# EAGLE library part TLV320AIC3101 (library X893)
http://focus.ti.com/lit/ds/symlink/tlv320aic3101.pdf
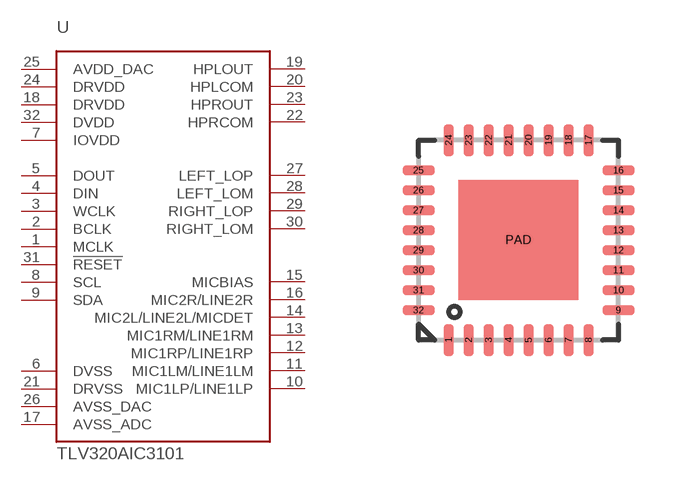
[diagram p70: symbol with the pads of QFN32-5X5; footprint QFN32-5X5]

Designator prefix U

## TLV320AIC3101  [QFN32-5X5]
1  MCLK  in
2  BCLK
3  WCLK
4  DIN  in
5  DOUT  out
6  DVSS  pas
7  IOVDD  pas
8  SCL
9  SDA
10  MIC1LP/LINE1LP  pas
11  MIC1LM/LINE1LM  pas
12  MIC1RP/LINE1RP  pas
13  MIC1RM/LINE1RM  pas
14  MIC2L/LINE2L/MICDET  pas
15  MICBIAS  pas
16  MIC2R/LINE2R  pas
17  AVSS_ADC  pas
18  DRVDD  pas
19  HPLOUT  pas
20  HPLCOM  pas
21  DRVSS  pas
22  HPRCOM  pas
23  HPROUT  pas
24  DRVDD  pas
25  AVDD_DAC  pas
26  AVSS_DAC  pas
27  LEFT_LOP  pas
28  LEFT_LOM  pas
29  RIGHT_LOP  pas
30  RIGHT_LOM  pas
31  !RESET  in
32  DVDD  pas

## Footprint QFN32-5X5 (pad centres in mm)
smd 0.25 x 0.8: 1 -1.75,-2.5; 2 -1.25,-2.5; 3 -0.75,-2.5; 4 -0.25,-2.5; 5 0.25,-2.5; 6 0.75,-2.5; 7 1.25,-2.5; 8 1.75,-2.5; 17 1.75,2.5; 18 1.25,2.5; 19 0.75,2.5; 20 0.25,2.5; 21 -0.25,2.5; 22 -0.75,2.5; 23 -1.25,2.5; 24 -1.75,2.5
smd 0.8 x 0.25: 9 2.5,-1.75; 10 2.5,-1.25; 11 2.5,-0.75; 12 2.5,-0.25; 13 2.5,0.25; 14 2.5,0.75; 15 2.5,1.25; 16 2.5,1.75; 25 -2.5,1.75; 26 -2.5,1.25; 27 -2.5,0.75; 28 -2.5,0.25; 29 -2.5,-0.25; 30 -2.5,-0.75; 31 -2.5,-1.25; 32 -2.5,-1.75
smd 0.5 x 0.5: PAD 0,0